# Altium footprint library PCB1.PcbLib: 20 footprints (part 1 of 2)
Each footprint in its own frame and in the unit in brackets; x right, y up, seen from the top. Pads: shape width x height; smd on the part's side, far side on the other; paste and mask are expansions set on the pad; w line width, h text height; cw(c..) or ccw(c..) is an arc to the next point about the centre after c.
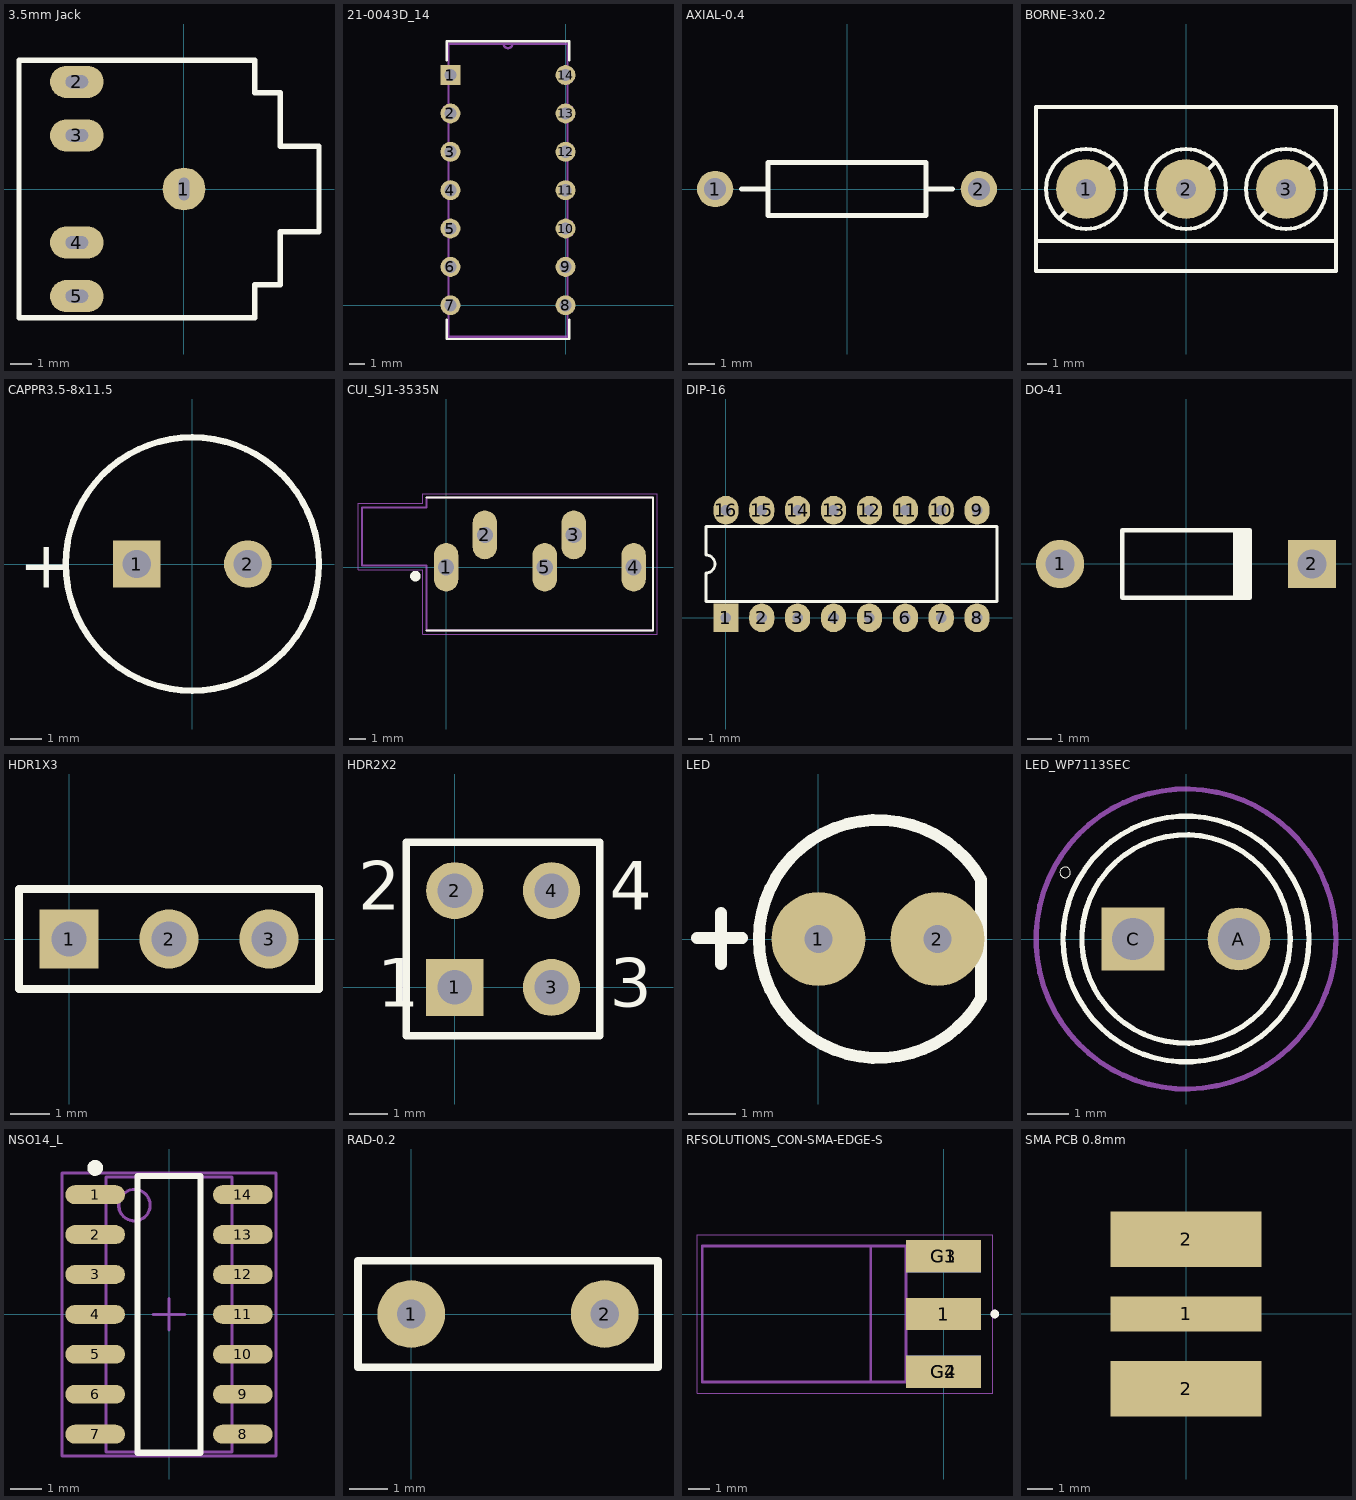
[diagram p0: the footprints below, top view; thin cyan lines are the x and y axes]

## 3.5mm Jack [mm] "stereo jack 3.5mm"
height 5
pads (5):
  round 2 hole 0.5 slot 1.05 at 90 deg: 1(0,0)
  oval 2.5x1.5 hole 0.6 slot 1.05 at 0 deg: 2(-5,5) 3(-5,2.5) 4(-5,-2.5) 5(-5,-5)
Top Overlay:
  lines w0.254: 3.3,-4.5 3.3,-6 -7.7,-6 -7.7,6 3.3,6 3.3,4.5 4.5,4.5 4.5,2 6.3,2 6.3,-2 4.5,-2 4.5,-4.475 3.3,-4.475
3D body "sj1-3525n.stp": height 6.5, standoff -2.3, extent -7.45,-5.975 6.55,6.025

## 21-0043D_14 [mil]
pads (14):
  rect 52x52 hole 32: 1(-300,600)
  round 52 hole 32: 2(-300,500) 3(-300,400) 4(-300,300) 5(-300,200) 6(-300,100) 7(-300,0) 8(0,0) 9(0,100) 10(0,200) 11(0,300) 12(0,400) 13(0,500) 14(0,600)
Top Overlay:
  lines w6: -310,-38 -310,-88 10,-88 10,-38 ; -310,639 -310,688 10,688 10,638
Mechanical 13:
  lines w6: -162,682 ccw(c-150,682) -138,682 ; -162,682 -305,682 -305,-82 5,-82 5,682 -138,682 ; -162,682 -138,682 ; -316,-16 -305,-16 -305,16 -316,16 -316,-16 ; -316,84 -305,84 -305,116 -316,116 -316,84 ; -316,184 -305,184 -305,216 -316,216 -316,184 ; -316,284 -305,284 -305,316 -316,316 -316,284 ; -316,384 -305,384 -305,416 -316,416 -316,384 ; -316,484 -305,484 -305,516 -316,516 -316,484 ; -316,584 -305,584 -305,616 -316,616 -316,584 ; 5,-16 16,-16 16,16 5,16 5,-16 ; 5,84 16,84 16,116 5,116 5,84 ; 5,184 16,184 16,216 5,216 5,184 ; 5,284 16,284 16,316 5,316 5,284 ; 5,384 16,384 16,416 5,416 5,384 ; 5,484 16,484 16,516 5,516 5,484 ; 5,584 16,584 16,616 5,616 5,584

## AXIAL-0.4 [mm]
pads (2):
  round 1.4 hole 0.85: 1(-5.08,0) 2(5.08,0)
Top Overlay:
  lines w0.2: -4.064,0 -3.048,0 ; 3.048,0 4.064,0 ; -3.048,-1.016 3.048,-1.016 3.048,1.016 -3.048,1.016 -3.048,-1.016

## BORNE-3x0.2 [mil] "Triple borne para circuito impreso a tornillo, Pitch: 200mil (5.08mm), Largo cuerpo: 327mil (8.3mm)"
pads (3):
  round 120 hole 39.37: 1(-200,0) 2(0,0) 3(200,0)
Top Overlay:
  circle w7.87: c0,0 r80
  circle w7.87: c200,0 r80
  circle w7.87: c-200,0 r80
  lines w7.87: -300,-104 300,-104 ; -250,-55 -145,50 ; -50,-55 55,50 ; 150,-55 255,50 ; -300,-164 300,-164 300,164 -300,164 -300,-164

## CAPPR3.5-8x11.5 [mm]
pads (2):
  rect 1.5x1.5 hole 0.9: 1(-1.75,0)
  round 1.5 hole 0.9: 2(1.75,0)
Top Overlay:
  circle w0.2: c0,0 r4
  text "+" at -5.475,-0.75 h1.5

## CUI_SJ1-3535N [mm]
pads (5):
  oval 1.508x3.016 hole 1 square: 1(0,0) 2(2.4,2) 3(7.9,2) 4(11.6,0) 5(6.1,0)
Top Overlay:
  circle w0.35: c-1.9,-0.55 r0.15
  lines w0.127: -1.2,-3.9 12.8,-3.9 12.8,4.3 -1.2,4.3
Mechanical 13:
  lines w0.127: -5.2,0.1 -5.2,3.7 -1.2,3.7 -1.2,4.3 12.8,4.3 12.8,-3.9 -1.2,-3.9 -1.2,0.1 -5.2,0.1
Mechanical 15:
  lines w0.05: -5.45,-0.15 -5.45,3.95 -1.45,3.95 -1.45,4.55 13.05,4.55 13.05,-4.15 -1.45,-4.15 -1.45,-0.15 -5.45,-0.15

## DIP-16 [mil] "Dual In-line Package, 16 pines, Ancho cuerpo: 300mil (7.62 mm),  Pitch: 100mil (2.54 mm)"
pads (16):
  rect 70x80 hole 29.53: 1(0,0)
  oval 70x80 hole 29.53: 2(100,0) 3(200,0) 4(300,0) 5(400,0) 6(500,0) 7(600,0) 8(700,0) 9(700,300) 10(600,300) 11(500,300) 12(400,300) 13(300,300) 14(200,300) 15(100,300) 16(0,300)
Top Overlay:
  lines w7.87: -55.51,45.67 -55.51,125 ccw(c-55.51,150) -55.51,175 -55.51,254.33 755.51,254.33 755.51,45.67 -55.51,45.67

## DO-41 [mm]
pads (2):
  round 2 hole 1.2: 1(-5.23,0)
  rect 2x2 hole 1.2: 2(5.23,0)
Top Overlay:
  rectangle: 1.95,-1.4 2.75,1.4
  lines w0.2: 2.65,-1.4 -2.65,-1.4 -2.65,1.4 2.65,1.4

## HDR1X3 [mm]
pads (3):
  rect 1.5x1.5 hole 0.9: 1(0,0)
  round 1.5 hole 0.9: 2(2.54,0) 3(5.08,0)
Top Overlay:
  lines w0.2: -1.27,-1.27 6.35,-1.27 6.35,1.27 -1.27,1.27 -1.27,-1.27

## HDR2X2 [mm]
pads (4):
  rect 1.5x1.5 hole 0.9: 1(0,0)
  round 1.5 hole 0.9: 2(0,2.54) 3(2.54,0) 4(2.54,2.54)
Top Overlay:
  lines w0.2: -1.27,-1.27 3.81,-1.27 3.81,3.81 -1.27,3.81 -1.27,-1.27
  text "3" at 4.064,-0.508 h1.27
  text "4" at 4.064,2.032 h1.27
  text "2" at -2.54,2.032 h1.27
  text "1" at -2.032,-0.508 h1.27

## LED [mm]
pads (2):
  round 2 hole 0.6: 1(0,0) 2(2.54,0)
Top Overlay:
  lines w0.254: -2.591,0.025 -1.626,0.025 ; -2.083,-0.533 -2.083,0.559 ; 3.47,-1.27 cw(c1.27,0) 3.47,1.27 3.47,-1.27
3D body "SW3dPS-LEDd5G.STEP": height 8.81, standoff -5.99, extent -1.7,-2.91 3.72,3.11

## LED_WP7113SEC [mm]
pads (2):
  round 1.508 hole 1: A(1.27,0)
  rect 1.508x1.508 hole 1: C(-1.27,0)
Top Overlay:
  circle w0.127: c0,0 r2.95
  circle w0.127: c0,0 r2.5
  circle w0: c-2.9,1.6 r0.127
Mechanical 15:
  circle w0.127: c0,0 r3.6

## NSO14_L [mm] "SOIC, 14-Leads, Body 8.7x3.9mm, Pitch 1.27mm, IPC High Density"
height 1.75
pads (14):
  oval 1.9x0.6 smd: 1(-2.35,3.81) 2(-2.35,2.54) 3(-2.35,1.27) 4(-2.35,0) 5(-2.35,-1.27) 6(-2.35,-2.54) 7(-2.35,-3.81) 8(2.35,-3.81) 9(2.35,-2.54) 10(2.35,-1.27) 11(2.35,0) 12(2.35,1.27) 13(2.35,2.54) 14(2.35,3.81)
Top Overlay:
  circle w0.25: c-2.35,4.66 r0.125
  lines w0.2: -1,-4.4 1,-4.4 1,4.4 -1,4.4 -1,-4.4
Mechanical 13:
  circle w0.1: c-1.1,3.475 r0.5
  lines w0.1: -2,-4.375 2,-4.375 2,4.375 -2,4.375 -2,-4.375
Mechanical 15:
  lines w0.1: -0.5,0 0.5,0 ; 0,-0.5 0,0.5 ; -3.4,-4.5 3.4,-4.5 3.4,4.5 -3.4,4.5 -3.4,-4.5
3D body: height 1.75, standoff 0, extent -2,-4.375 2,4.375

## RAD-0.2 [mil]
pads (2):
  round 70 hole 29.53: 1(0,0) 2(200,0)
Top Overlay:
  lines w7.87: -55,-55 255,-55 255,55 100,55 -55,55 -55,-55

## RFSOLUTIONS_CON-SMA-EDGE-S [mm]
pads (5):
  rect 3.5x1.5 smd: 1(0,0) G1(0,2.7) G2(0,-2.7)
  rect 3.5x1.5 smd far side: G3(0,2.7) G4(0,-2.7)
Top Overlay:
  circle w0.2: c2.4,0 r0.1
Mechanical 13:
  circle w0.2: c2.4,0 r0.1
  lines w0.05: -11.52,-3.7 -11.52,3.7 2.31,3.7 2.31,-3.7 -11.52,-3.7
  lines w0.127: -11.27,-3.175 -11.27,3.175 ; -11.27,-3.175 -3.4,-3.175 ; -11.27,-3.175 -3.4,-3.175 ; -11.27,-3.175 -11.27,3.175 ; -11.27,3.175 -3.4,3.175 ; -11.27,3.175 -3.4,3.175 ; -3.4,-3.175 -1.75,-3.175 ; -3.4,-3.175 -3.4,3.175 ; -3.4,-3.175 -3.4,3.175 ; -3.4,-3.175 -1.75,-3.175 ; -3.4,3.175 -1.75,3.175 ; -3.4,3.175 -1.75,3.175 ; -1.75,-3.175 -1.75,3.175 ; -1.75,-3.175 -1.75,3.175
Mechanical 15:
  lines w0.05: -11.52,-3.7 -11.52,3.7 2.31,3.7 2.31,-3.7 -11.52,-3.7

## SMA PCB 0.8mm [mm]
pads (3):
  rect 6x1.4 smd: 1(0,0)
  rect 6x2.2 smd: 2(0,-2.975) 2(0,2.975)
3D body: height 22.91, standoff 16.56, extent -5.312,1.804 -5.312,1.804
3D body "empcb_smafstj_b_ht.stp": height 3.56, standoff -2.79, extent -12.55,-3.176 0.75,3.176